# Altium integrated library ST Interface Servo Motor Controller.IntLib: 6 symbols
Pins are listed as number, name and electrical type; pins without a type are passive.

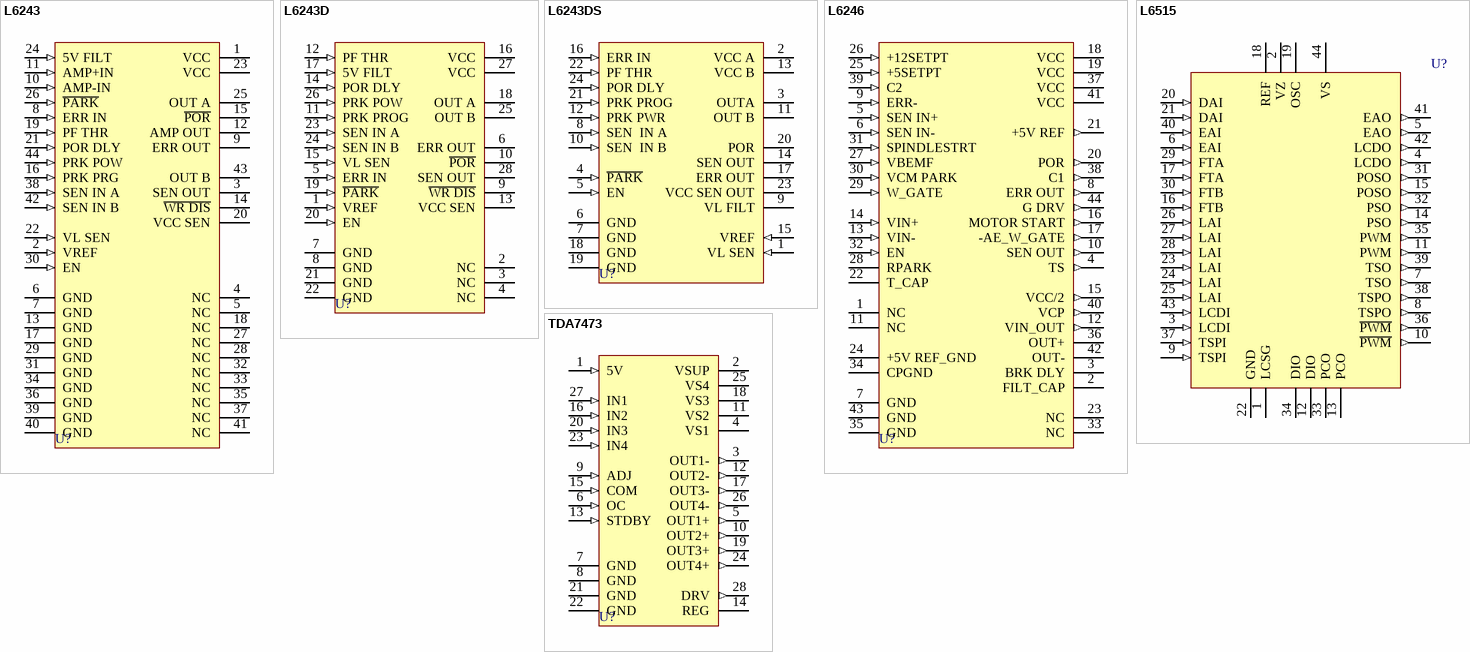
[diagram p0: symbols L6243 to TDA7473]

## L6243
designator U?
Voice Coil Motor Driver; Published: 8-Jun-2000; LatestRevisionDate: 13-Apr-2006; LatestRevisionNote: IPC-7351 Footprint Added.; DatasheetVersion: Jul-1996; PackageVersion: Feb-1997; PackageReference: PLCC44A; Publisher: Altium Limited; PackageDescription: 44-Pin Leaded Chip Carrier 1.27 mm Pitch; Code_IPC: PLCC-44; ComponentLink1Description: Manufacturer Link; ComponentLink1URL: http://www.st.com/
footprint PLCC44A_N (Leaded Chip Carrier, 44-Leads, Body 16.6x16.6mm, Pitch 1.27mm, IPC Medium Density)
footprint PLCC44A_L (Leaded Chip Carrier, 44-Leads, Body 16.6x16.6mm, Pitch 1.27mm, IPC High Density)
footprint PLCC44A_M (Leaded Chip Carrier, 44-Leads, Body 16.6x16.6mm, Pitch 1.27mm, IPC Low Density)
3D model L6243-PLCC44 (44-Pin Leaded Chip Carrier 1.27 mm Pitch)
pins: 1 VCC (power), 2 VREF (in), 3 SEN OUT (hiz), 4 NC, 5 NC, 6 GND (power), 7 GND (power), 8 ERR IN (in), 9 ERR OUT (hiz), 10 AMP-IN (in), 11 AMP+IN (in), 12 AMP OUT (hiz), 13 GND (power), 14 ~{WR DIS} (hiz), 15 ~{POR} (hiz), 16 PRK PRG (in), 17 GND (power), 18 NC, 19 PF THR (in), 20 VCC SEN (oc), 21 POR DLY (in), 22 VL SEN (in), 23 VCC (power), 24 5V FILT (in), 25 OUT A (hiz), 26 ~{PARK} (in), 27 NC, 28 NC, 29 GND (power), 30 EN (in), 31 GND (power), 32 NC, 33 NC, 34 GND (power), 35 NC, 36 GND (power), 37 NC, 38 SEN IN A (in), 39 GND (power), 40 GND (power), 41 NC, 42 SEN IN B (in), 43 OUT B (hiz), 44 PRK POW (in)

## L6243D
designator U?
Voice Coil Motor Driver; Published: 8-Jun-2000; LatestRevisionDate: 13-Apr-2006; LatestRevisionNote: IPC-7351 Footprint Added.; DatasheetVersion: Jul-1996; PackageVersion: Jul-2001; PackageReference: SO28; Publisher: Altium Limited; PackageDescription: 28-Pin Plastic Small Outline Integrated Circuit 1.27 mm Pitch; ComponentLink1Description: Manufacturer Link; ComponentLink1URL: http://www.st.com/
footprint SO28_N (SOIC, 28-Leads, Body 17.9x7.5mm, Pitch 1.27mm, IPC Medium Density)
footprint SO28_L (SOIC, 28-Leads, Body 17.9x7.5mm, Pitch 1.27mm, IPC High Density)
footprint SO28_M (SOIC, 28-Leads, Body 17.9x7.5mm, Pitch 1.27mm, IPC Low Density)
3D model SO28 (28-Pin Plastic Small Outline Integrated Circuit 1.27 mm Pitch)
pins: 1 VREF (in), 2 NC, 3 NC, 4 NC, 5 ERR IN (in), 6 ERR OUT (hiz), 7 GND (power), 8 GND (power), 9 ~{WR DIS} (hiz), 10 ~{POR} (hiz), 11 PRK PROG (in), 12 PF THR (in), 13 VCC SEN (oc), 14 POR DLY (in), 15 VL SEN (in), 16 VCC (power), 17 5V FILT (in), 18 OUT A (hiz), 19 ~{PARK} (in), 20 EN (in), 21 GND (power), 22 GND (power), 23 SEN IN A (in), 24 SEN IN B (in), 25 OUT B (hiz), 26 PRK POW (in), 27 VCC (power), 28 SEN OUT (hiz)

## L6243DS
designator U?
Voice Coil Motor Driver; Published: 8-Jun-2000; LatestRevisionDate: 13-Apr-2006; LatestRevisionNote: IPC-7351 Footprint Added.; DatasheetVersion: Feb-1998; PackageVersion: Oct-2001; PackageReference: SO24; Publisher: Altium Limited; PackageDescription: 24-Pin Plastic Small Outline Integrated Circuit 1.27 mm Pitch; ComponentLink1Description: Manufacturer Link; ComponentLink1URL: http://www.st.com/
footprint SO24_N (SOIC, 24-Leads, Body 15.4x7.5mm, Pitch 1.27mm, IPC Medium Density)
footprint SO24_L (SOIC, 24-Leads, Body 15.4x7.5mm, Pitch 1.27mm, IPC High Density)
footprint SO24_M (SOIC, 24-Leads, Body 15.4x7.5mm, Pitch 1.27mm, IPC Low Density)
3D model SO24 (24-Pin Plastic Small Outline Integrated Circuit 1.27 mm Pitch)
pins: 1 VL SEN (in), 2 VCC A (power), 3 OUTA (hiz), 4 ~{PARK} (in), 5 EN (in), 6 GND (power), 7 GND (power), 8 SEN  IN A (in), 9 VL FILT, 10 SEN  IN B (in), 11 OUT B (hiz), 12 PRK PWR (in), 13 VCC B (power), 14 SEN OUT (hiz), 15 VREF (in), 16 ERR IN (in), 17 ERR OUT (hiz), 18 GND (power), 19 GND (power), 20 POR (hiz), 21 PRK PROG (in), 22 PF THR (in), 23 VCC SEN OUT (oc), 24 POR DLY (in)

## L6246
designator U?
12V Voice Coil Motor Driver; Published: 8-Jun-2000; LatestRevisionDate: 13-Apr-2006; LatestRevisionNote: IPC-7351 Footprint Added.; DatasheetVersion: Feb-1998; PackageVersion: Nov-1999; PackageReference: PQFP44A; Publisher: Altium Limited; PackageDescription: 44-Pin Quad Flat Pack 0.8 mm Pitch; Code_JEDEC: MS-022-AB; Code_IPC: QFP80P1320X1320-44; ComponentLink1Description: Manufacturer Link; ComponentLink1URL: http://www.st.com/; ComponentLink2Description: Datasheet; ComponentLink2URL: http://www.st.com/stonline/products/literature/ds/1771/l6246.pdf
footprint PQFP44A_N (QFP, 44-Leads, Body 10x10mm, Pitch 0.8mm, IPC Medium Density)
footprint PQFP44A_L (QFP, 44-Leads, Body 10x10mm, Pitch 0.8mm, IPC High Density)
footprint PQFP44A_M (QFP, 44-Leads, Body 10x10mm, Pitch 0.8mm, IPC Low Density)
3D model L6246-PQFP44 (44-Pin Quad Flat Pack 0.8 mm Pitch)
pins: 1 NC, 2 FILT_CAP, 3 BRK DLY, 4 TS (out), 5 SEN IN+ (in), 6 SEN IN- (in), 7 GND (power), 8 ERR OUT (out), 9 ERR- (in), 10 SEN OUT (out), 11 NC, 12 VIN_OUT (out), 13 VIN- (in), 14 VIN+ (in), 15 VCC/2 (out), 16 MOTOR START (out), 17 -AE_W_GATE (out), 18 VCC (power), 19 VCC (power), 20 POR (out), 21 +5V REF (out), 22 T_CAP, 23 NC, 24 +5V REF_GND (power), 25 +5SETPT (in), 26 +12SETPT (in), 27 VBEMF (in), 28 RPARK, 29 W_GATE (in), 30 VCM PARK (in), 31 SPINDLESTRT (in), 32 EN (in), 33 NC, 34 CPGND (power), 35 GND (power), 36 OUT+ (hiz), 37 VCC (power), 38 C1 (out), 39 C2 (in), 40 VCP (out), 41 VCC (power), 42 OUT- (hiz), 43 GND (power), 44 G DRV (out)

## L6515
designator U?
Dual DC Motor Positioning System; Published: 8-Jun-2000; LatestRevisionDate: 13-Apr-2006; LatestRevisionNote: IPC-7351 Footprint Added.; DatasheetVersion: May-1994; PackageVersion: Feb-1997; PackageReference: PLCC44A; Publisher: Altium Limited; PackageDescription: 44-Pin Leaded Chip Carrier 1.27 mm Pitch; Code_IPC: PLCC-44; ComponentLink1Description: Manufacturer Link; ComponentLink1URL: http://www.st.com/
footprint PLCC44A_N (Leaded Chip Carrier, 44-Leads, Body 16.6x16.6mm, Pitch 1.27mm, IPC Medium Density)
footprint PLCC44A_L (Leaded Chip Carrier, 44-Leads, Body 16.6x16.6mm, Pitch 1.27mm, IPC High Density)
footprint PLCC44A_M (Leaded Chip Carrier, 44-Leads, Body 16.6x16.6mm, Pitch 1.27mm, IPC Low Density)
3D model L6515-PLCC44 (44-Pin Leaded Chip Carrier 1.27 mm Pitch)
pins: 1 LCSG (power), 2 VZ, 3 LCDI (in), 4 LCDO (out), 5 EAO (out), 6 EAI (in), 7 TSO (out), 8 TSPO (out), 9 TSPI (in), 10 ~{PWM} (out), 11 PWM (out), 12 DIO (oc), 13 PCO (oc), 14 PSO (out), 15 POSO (out), 16 FTB (in), 17 FTA (in), 18 REF, 19 OSC, 20 DAI (in), 21 DAI (in), 22 GND (power), 23 LAI (in), 24 LAI (in), 25 LAI (in), 26 LAI (in), 27 LAI (in), 28 LAI (in), 29 FTA (in), 30 FTB (in), 31 POSO (out), 32 PSO (out), 33 PCO (oc), 34 DIO (oc), 35 PWM (out), 36 ~{PWM} (out), 37 TSPI (in), 38 TSPO (out), 39 TSO (out), 40 EAI (in), 41 EAO (out), 42 LCDO (out), 43 LCDI (in), 44 VS (power)

## TDA7473
designator U?
Quad BTL Driver With Voltage Regulator; Published: 8-Jun-2000; LatestRevisionDate: 13-Apr-2006; LatestRevisionNote: IPC-7351 Footprint Added.; DatasheetVersion: Jun-1998; PackageVersion: Jul-2001; PackageReference: SO28; Publisher: Altium Limited; PackageDescription: 28-Pin Plastic Small Outline Integrated Circuit 1.27 mm Pitch; ComponentLink1Description: Manufacturer Link; ComponentLink1URL: http://www.st.com/; ComponentLink2Description: Datasheet; ComponentLink2URL: http://www.st.com/stonline/products/literature/ds/4920/tda7473.pdf
footprint SO28_N (SOIC, 28-Leads, Body 17.9x7.5mm, Pitch 1.27mm, IPC Medium Density)
footprint SO28_L (SOIC, 28-Leads, Body 17.9x7.5mm, Pitch 1.27mm, IPC High Density)
footprint SO28_M (SOIC, 28-Leads, Body 17.9x7.5mm, Pitch 1.27mm, IPC Low Density)
3D model SO28 (28-Pin Plastic Small Outline Integrated Circuit 1.27 mm Pitch)
pins: 1 5V (in), 2 VSUP (power), 3 OUT1- (out), 4 VS1 (power), 5 OUT1+ (out), 6 OC (in), 7 GND (power), 8 GND (power), 9 ADJ (in), 10 OUT2+ (out), 11 VS2 (power), 12 OUT2- (out), 13 STDBY (in), 14 REG (oe), 15 COM (in), 16 IN2 (in), 17 OUT3- (out), 18 VS3 (power), 19 OUT3+ (out), 20 IN3 (in), 21 GND (power), 22 GND (power), 23 IN4 (in), 24 OUT4+ (out), 25 VS4 (power), 26 OUT4- (out), 27 IN1 (in), 28 DRV (out)